# Altium integrated library Microsxeme.IntLib: 2 symbols
Pins are listed as number, name and electrical type; pins without a type are passive.

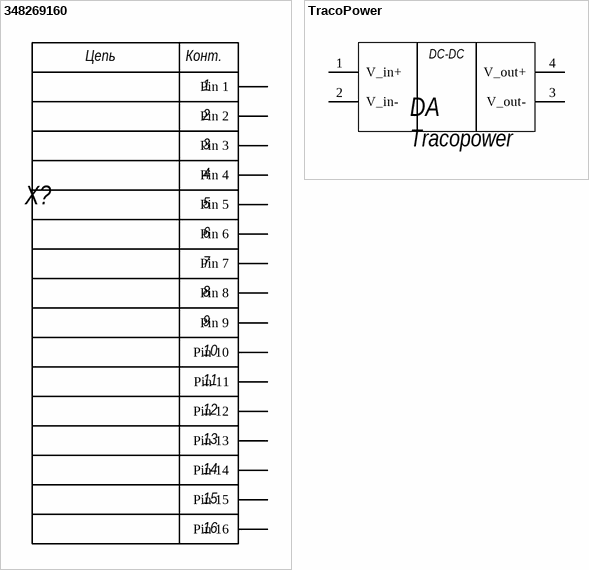
[diagram p0: symbols 348269160 to TracoPower]

## 348269160
designator X?  (value not drawn)
footprint 348269160 (Dual Row, 16 Circuit, Polarization Option A, 2.80mm Pin Length, Black, Tube)
pins: 1 Pin 1 (oc), 2 Pin 2 (oc), 3 Pin 3 (oc), 4 Pin 4 (oc), 5 Pin 5 (oc), 6 Pin 6 (oc), 7 Pin 7 (oc), 8 Pin 8 (oc), 9 Pin 9 (oc), 10 Pin 10 (oc), 11 Pin 11 (oc), 12 Pin 12 (oc), 13 Pin 13 (oc), 14 Pin 14 (oc), 15 Pin 15 (oc), 16 Pin 16 (oc)
text: Цепь; Конт.

## TracoPower
designator DA, comment Tracopower
footprint Tracopower (24V->5V 1000mA)
pins: 1 V_in+ (oc), 2 V_in- (oc), 3 V_out- (oc), 4 V_out+ (oc), 5 (oc)
text: DC-DC